# EAGLE library part P2_3_2.54 (library pins)
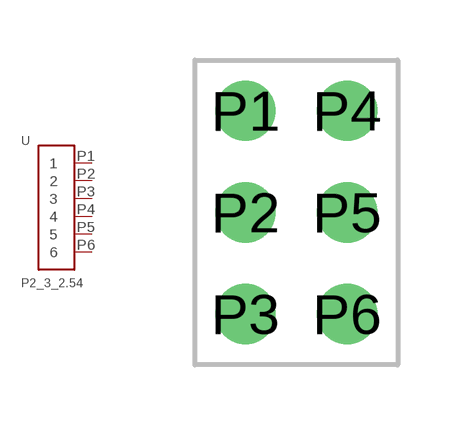
[diagram p5: symbol with the pads of P2_3_2.54; footprint P2_3_2.54]

Designator prefix -

## P2_3_2.54  [P2_3_2.54]
P1  1
P2  2
P3  3
P4  4
P5  5
P6  6

## Footprint P2_3_2.54 (pad centres in mm)
drill 1: P1 -1.27,2.54; P2 -1.27,0; P3 -1.27,-2.54; P4 1.27,2.54; P5 1.27,0; P6 1.27,-2.54